# EAGLE library part MCP3004 (library PiB)
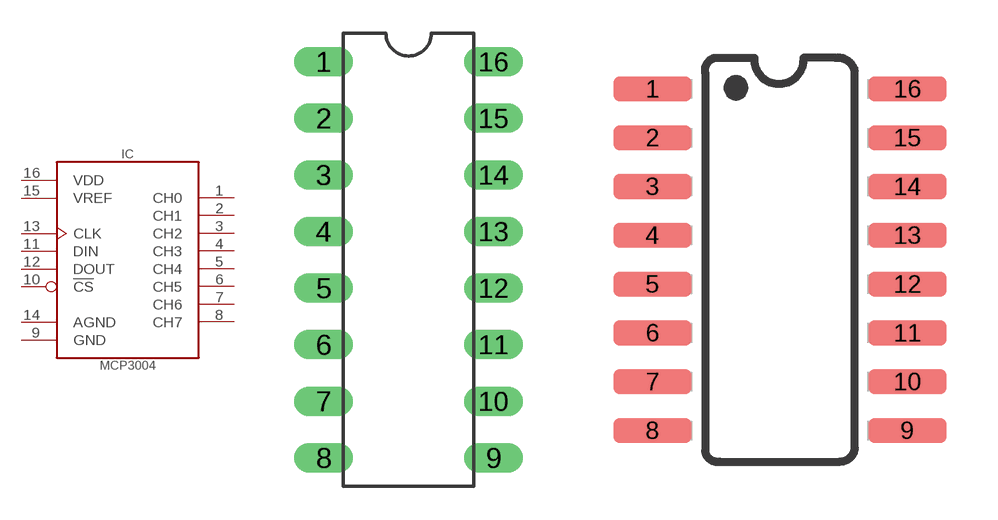
[diagram p12: symbol with the pads of DIP-16; footprints DIP-16, SO-16]

Designator prefix IC

## MCP3004DIP-16 (CREATOR: MrSwirlyEyes; DATASHEET: http://ww1.microchip.com/downloads/en/DeviceDoc/21295d.pdf; DIST: Digikey; DISTLINK: https://www.digikey.com/products/en?keywords=MCP3008-I%2FP-ND; DISTPN: MCP3008-I/P-ND; MFR: Microchip Technology; MPN: MCP3008-I/P; TESTED: NO; VALUE: MCP3008)  [DIP-16]
1  CH0  in
2  CH1  in
3  CH2  in
4  CH3  in
5  CH4  in
6  CH5  in
7  CH6  in
8  CH7  in
9  GND  pwr
10  !CS  in
11  DIN  in
12  DOUT  out
13  CLK  in
14  AGND  pwr
15  VREF  in
16  VDD  pwr

## MCP3004SO-16 (CREATOR: MrSwirlyEyes; DATASHEET: http://ww1.microchip.com/downloads/en/DeviceDoc/21295d.pdf; DIST: Digikey; DISTLINK: https://www.digikey.com/products/en?keywords=MCP3008-I%2FSL-ND; DISTPN: MCP3008-I/SL-ND; MFR: Microchip Technology; MPN: MCP3008-I/SL; TESTED: NO; VALUE: MCP3008)  [SO-16]
Pads as for DIP-16

## Footprint DIP-16 (pad centres in mm)
Dual In Line Package
drill 0.813 long: 1 -3.81,8.89; 2 -3.81,6.35; 3 -3.81,3.81; 4 -3.81,1.27; 5 -3.81,-1.27; 6 -3.81,-3.81; 7 -3.81,-6.35; 8 -3.81,-8.89; 9 3.81,-8.89; 10 3.81,-6.35; 11 3.81,-3.81; 12 3.81,-1.27; 13 3.81,1.27; 14 3.81,3.81; 15 3.81,6.35; 16 3.81,8.89

## Footprint SO-16 (pad centres in mm)
smd 2.032 x 0.66: 1 -3.285,4.145; 2 -3.285,2.875; 3 -3.285,1.605; 4 -3.285,0.335; 5 -3.285,-0.935; 6 -3.285,-2.205; 7 -3.285,-3.475; 8 -3.285,-4.745; 9 3.345,-4.745; 10 3.345,-3.475; 11 3.345,-2.205; 12 3.345,-0.935; 13 3.345,0.335; 14 3.345,1.605; 15 3.345,2.875; 16 3.345,4.145